# Altium schematic symbol library BTS7960.SchLib: 1 symbol
Pins are listed as number, name and electrical type; pins without a type are passive.

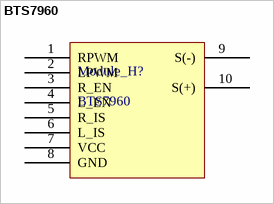
[diagram p0: symbol BTS7960]

## BTS7960
designator Module_H?
footprint BTS7960
pins: 1 RPWM, 2 LPWM, 3 R_EN, 4 L_EN, 5 R_IS, 6 L_IS, 7 VCC, 8 GND, 9 S(-), 10 S(+)